# EAGLE library part SN75179BD (library ruark2)
1/1 Transceiver Full RS422, RS485 8-SOIC 5V
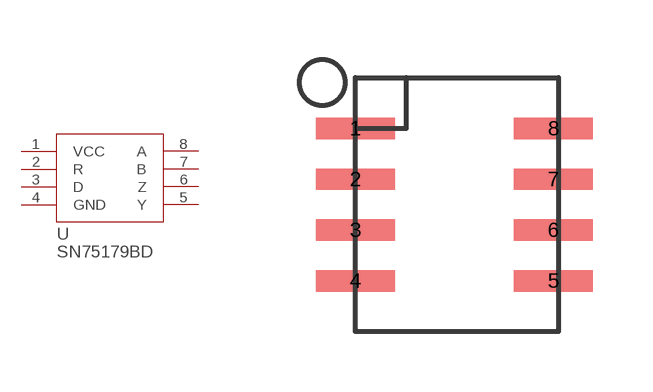
[diagram p182: symbol with the pads of SOIC8; footprint SOIC8]

Designator prefix U

## SN75179BD (PARTNO: 296-6860-5-ND)  [SOIC8]
1  VCC
2  R
3  D
4  GND
5  Y
6  Z
7  B
8  A

## Footprint SOIC8 (pad centres in mm)
smd 1.981 x 0.533: 1 -2.477,1.905; 2 -2.477,0.635; 3 -2.477,-0.635; 4 -2.477,-1.905; 5 2.477,-1.905; 6 2.477,-0.635; 7 2.477,0.635; 8 2.477,1.905